# Altium footprint library LegacyDO.PcbLib: 67 footprints (part 4 of 5)
Each footprint in its own frame and in the unit in brackets; x right, y up, seen from the top. Pads: shape width x height; smd on the part's side, far side on the other; paste and mask are expansions set on the pad; w line width, h text height; cw(c..) or ccw(c..) is an arc to the next point about the centre after c.
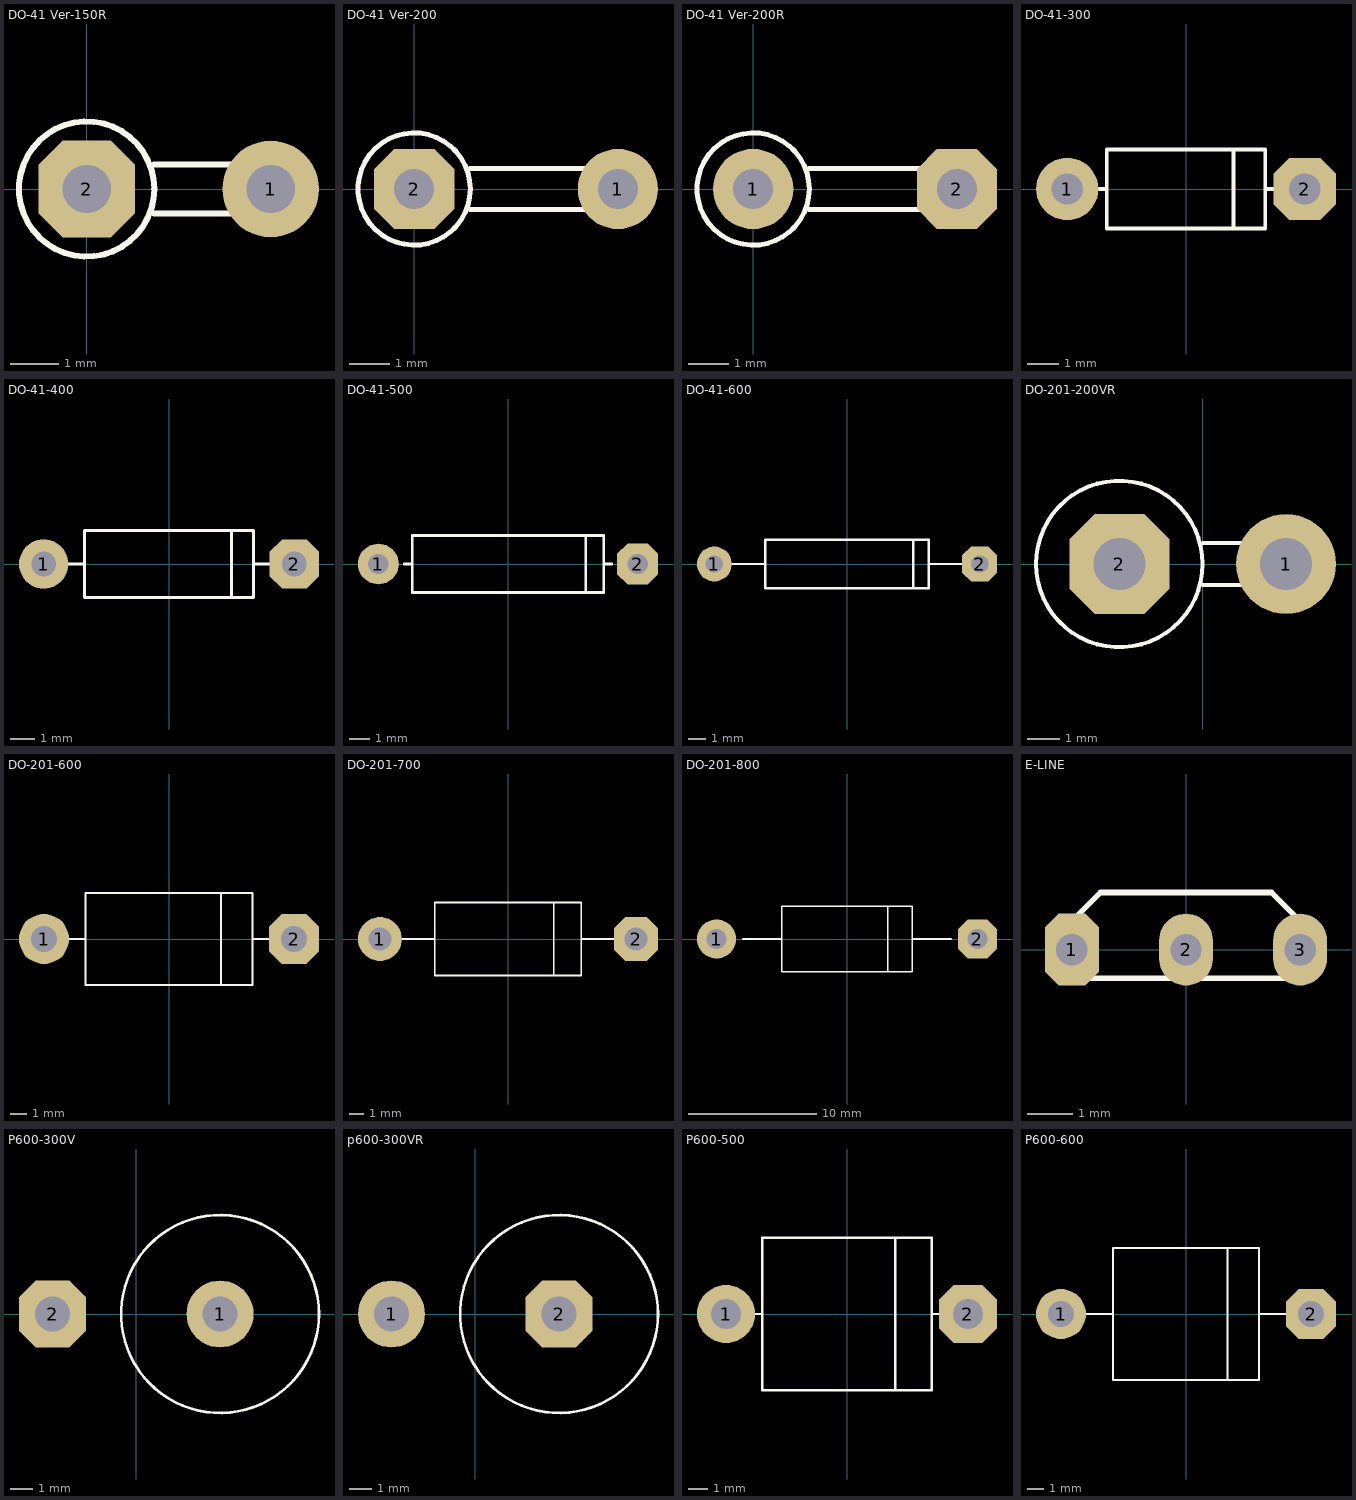
[diagram p3: the footprints below, top view; thin cyan lines are the x and y axes]

## DO-41 Ver-150R [mm]
pads (2):
  round 2 hole 1: 1(3.81,0)
  oct 2x2 hole 1: 2(0,0)
Top Overlay:
  circle w0.125: c0,0 r1.4
  lines w0.125: 1.397,-0.508 3.81,-0.508 3.81,0.508 ; 1.397,0.508 3.81,0.508 ; 3.429,0.508 3.81,0.508
3D body "DO-41 Ver-150R.STEP": height 6.84, standoff -1.55, extent -1.333,-1.333 4.204,1.334

## DO-41 Ver-200 [mm]
pads (2):
  round 2 hole 1: 1(5.08,0)
  oct 2x2 hole 1: 2(0,0)
Top Overlay:
  circle w0.125: c0,0 r1.4
  lines w0.125: 1.397,-0.508 5.08,-0.508 5.08,0.508 1.397,0.508
3D body "DO-41 Ver-200.STEP": height 6.84, standoff -1.55, extent -1.334,-1.334 5.474,1.333

## DO-41 Ver-200R [mm]
pads (2):
  round 2 hole 1: 1(0,0)
  oct 2x2 hole 1: 2(5.08,0)
Top Overlay:
  circle w0.125: c0,0 r1.4
  lines w0.125: 1.397,-0.508 5.08,-0.508 5.08,0.508 1.397,0.508
3D body "DO-41 Ver-200.STEP": height 0, standoff 0, extent 5.817,1.549 5.817,1.549
3D body "DO-41 Ver-200.STEP": height 0, standoff 0, extent 3.912,-1.092 3.912,-1.092
3D body "DO-41 Ver-200R.STEP": height 6.84, standoff -1.55, extent -1.333,-1.334 5.474,1.333

## DO-41-300 [mm]
pads (2):
  round 2 hole 1: 1(-3.81,0)
  oct 2x2 hole 1: 2(3.81,0)
Top Overlay:
  lines w0.125: -2.921,0 -2.54,0 ; 1.524,-1.27 1.524,1.27 ; 2.54,0 2.921,0 ; -2.54,-1.27 2.54,-1.27 2.54,1.27 -2.54,1.27 -2.54,-1.27
3D body "DO-41-300.STEP": height 2.81, standoff -2.55, extent -4.24,-1.362 4.24,1.363

## DO-41-400 [mm]
pads (2):
  round 2 hole 1: 1(-5.08,0)
  oct 2x2 hole 1: 2(5.08,0)
Top Overlay:
  lines w0.125: -4.064,0 -3.429,0 ; 2.54,-1.27 2.54,1.27 ; 3.429,0 4.064,0 ; -3.429,-1.362 -3.429,1.363 3.429,1.363 3.429,-1.362 -3.429,-1.362
3D body "DO-41-400.STEP": height 2.81, standoff -2.55, extent -5.51,-1.362 5.51,1.363

## DO-41-500 [mm]
pads (2):
  round 2 hole 1: 1(-6.35,0)
  oct 2x2 hole 1: 2(6.35,0)
Top Overlay:
  lines w0.125: -5.08,0 -4.699,0 ; 3.81,-1.397 3.81,1.397 ; 4.699,0 5.08,0 ; -4.699,-1.397 4.699,-1.397 4.699,1.397 -4.699,1.397 -4.699,-1.397
3D body "DO-41-500.STEP": height 2.81, standoff -2.55, extent -6.78,-1.362 6.78,1.363

## DO-41-600 [mm]
pads (2):
  round 2 hole 1: 1(-7.62,0)
  oct 2x2 hole 1: 2(7.62,0)
Top Overlay:
  lines w0.125: -7.62,0 -4.699,0 ; 3.81,-1.397 3.81,1.397 ; 4.699,0 7.62,0 ; -4.699,-1.397 -4.699,1.397 4.699,1.397 4.699,-1.397 -4.699,-1.397
3D body "DO-41-600.STEP": height 2.81, standoff -2.55, extent -8.05,-1.362 8.05,1.363

## DO-201-200VR [mil]
pads (2):
  round 120 hole 62: 1(100,0)
  oct 120x120 hole 62: 2(-100,0)
Top Overlay:
  circle w4.92: c-100.21,0 r100
  lines w4.92: 0,-25 100,-25 100,25 0,25
Mechanical 3:
  text ".Designator / .Comment" at -85,45 h40
3D body "DO-201-200 Ver R.STEP": height 454.72, standoff -61.02, extent -210.24,-110.24 123.62,110.23

## DO-201-600 [mil]
pads (2):
  round 120 hole 62: 1(-300,0)
  oct 120x120 hole 62: 2(300,0)
Top Overlay:
  lines w4.92: -270,0 -200,0 ; 125,-110 125,110 ; 200,0 270,0 ; -200,-110 -200,110 200,110 200,-110 -200,-110
Mechanical 3:
  text ".Designator / .Comment" at -85,-30 h40
3D body "DO-201-600.STEP": height 229.33, standoff -118.11, extent -325.58,-111.21 325.6,111.23

## DO-201-700 [mil]
pads (2):
  round 120 hole 62: 1(-350,0)
  oct 120x120 hole 62: 2(350,0)
Top Overlay:
  lines w4.92: -320,0 -200,0 ; 125,-100 125,100 ; 200,0 320,0 ; -200,-100 -200,100 10,100 200,100 200,-100 -200,-100
Mechanical 3:
  text ".Designator / .Comment" at -85,-30 h40
3D body "DO-201-700.STEP": height 229.33, standoff -118.11, extent -375.59,-111.22 375.6,111.23

## DO-201-800 [mil]
pads (2):
  round 120 hole 62: 1(-400,0)
  oct 120x120 hole 62: 2(400,0)
Top Overlay:
  lines w4.92: -320,0 -200,0 ; 125,-100 125,100 ; 200,0 320,0 ; -200,-100 200,-100 200,100 10,100 -200,100 -200,-100
Mechanical 3:
  text ".Designator / .Comment" at -85,-30 h40
3D body "DO-201-800.STEP": height 229.33, standoff -118.11, extent -425.59,-111.21 425.6,111.23

## E-LINE [mm]
pads (3):
  oct 1.2x1.6 hole 0.7: 1(-2.54,0)
  oval 1.2x1.6 hole 0.7: 2(0,0) 3(2.54,0)
Top Overlay:
  lines w0.125: 2.54,-0.635 -2.54,-0.635 -2.54,0.635 -1.905,1.27 1.905,1.27 2.54,0.635 ; 2.54,-0.635 2.54,0.635 ; 2.54,-0.635 2.54,0.635

## P600-300V [mil]
pads (2):
  round 120 hole 62: 1(150,0)
  oct 120x120 hole 62: 2(-150,0)
Top Overlay:
  circle w4.92: c150,0 r177.17

## p600-300VR [mil]
pads (2):
  round 120 hole 62: 1(-150,0)
  oct 120x120 hole 62: 2(150,0)
Top Overlay:
  circle w4.92: c150,0 r177.17

## P600-500 [mil]
pads (2):
  round 120 hole 62: 1(-250,0)
  oct 120x120 hole 62: 2(250,0)
Top Overlay:
  lines w4.92: -200,0 -175,0 ; 100,-155 100,155 ; 175,0 200,0 ; -175,-157.87 -175,157.88 175,157.88 175,-157.87 -175,-157.87
3D body "P600-500.STEP": height 315.35, standoff -98.43, extent -276.57,-157.87 276.58,157.88

## P600-600 [mil]
pads (2):
  round 120 hole 62: 1(-300,0)
  oct 120x120 hole 62: 2(300,0)
Top Overlay:
  lines w4.92: -250,0 -175,0 ; 100,-155 100,155 ; 175,0 250,0 ; -175,-157.87 175,-157.87 175,157.88 -175,157.88 -175,-157.87
3D body "P600-600.STEP": height 315.35, standoff -98.43, extent -326.57,-157.87 326.58,157.88